# EAGLE library part SAMTEC-SSM-126-X-SV (library kanzi)
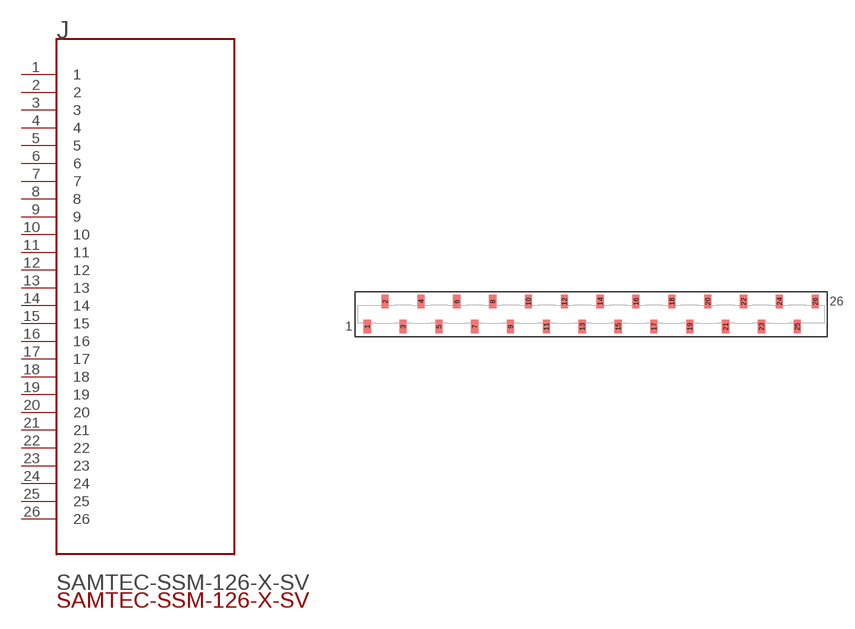
[diagram p0: symbol with the pads of SAMTEC-SSM-126-X-SV; footprint SAMTEC-SSM-126-X-SV]

Designator prefix J

## SAMTEC-SSM-126-X-SVJ (DESCRIPTION: SSM Series .100 _2.54 mm_ Tiger Claw™ Surface Mount Socket Strip; DIGI-KEY_PART_NUMBER: SSM-126-S-SV-010-TR-ND; DIGI-KEY_PURCHASE_URL: https://www.digikey.com/product-detail/en/samtec-inc/SSM-126-S-SV-010-TR/SSM-126-S-SV-010-TR-ND/7859598?utm_source=snapeda&utm_medium=aggregator&utm_campaign=symbol; MF: Samtec; MP: SSM-126-S-SV; PACKAGE: None)  [SAMTEC-SSM-126-X-SV]
1  1
2  2
3  3
4  4
5  5
6  6
7  7
8  8
9  9
10  10
11  11
12  12
13  13
14  14
15  15
16  16
17  17
18  18
19  19
20  20
21  21
22  22
23  23
24  24
25  25
26  26

## Footprint SAMTEC-SSM-126-X-SV (pad centres in mm)
translated Allegro footprint
smd 1.02 x 1.905: 1 -31.75,-1.778; 2 -29.21,1.778; 3 -26.67,-1.778; 4 -24.13,1.778; 5 -21.59,-1.778; 6 -19.05,1.778; 7 -16.51,-1.778; 8 -13.97,1.778; 9 -11.43,-1.778; 10 -8.89,1.778; 11 -6.35,-1.778; 12 -3.81,1.778; 13 -1.27,-1.778; 14 1.27,1.778; 15 3.81,-1.778; 16 6.35,1.778; 17 8.89,-1.778; 18 11.43,1.778; 19 13.97,-1.778; 20 16.51,1.778; 21 19.05,-1.778; 22 21.59,1.778; 23 24.13,-1.778; 24 26.67,1.778; 25 29.21,-1.778; 26 31.75,1.778